# Altium schematic symbol library Allegro.SchLib: 5 symbols
Pins are listed as number, name and electrical type; pins without a type are passive.

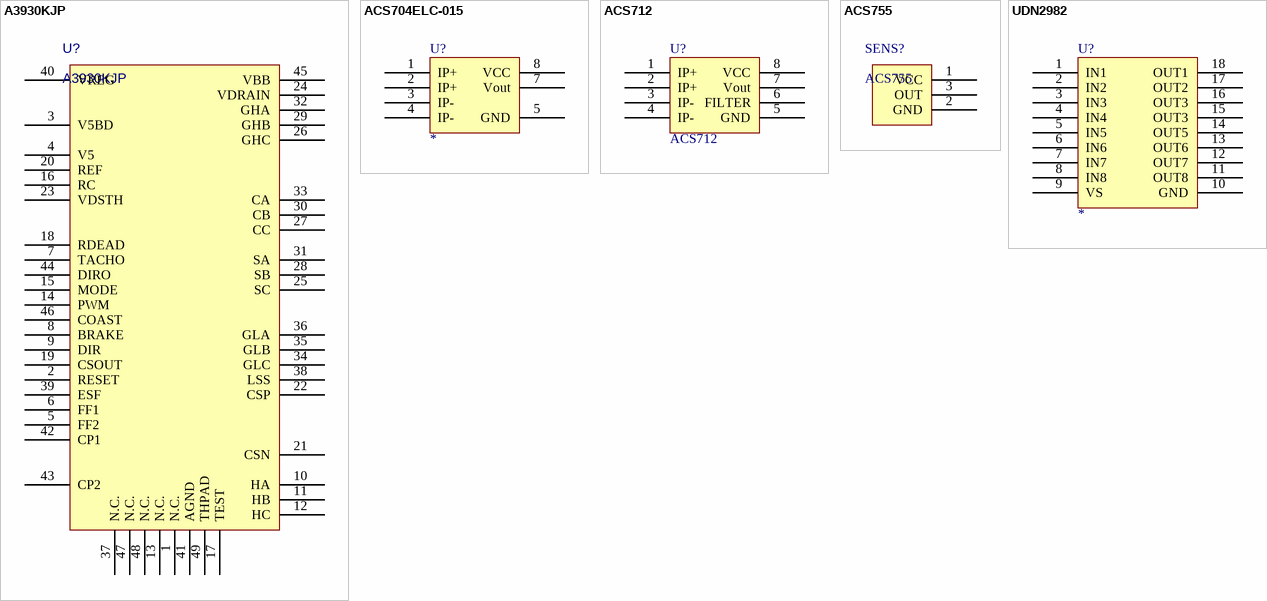
[diagram p0: symbols A3930KJP to UDN2982]

## A3930KJP
designator U?
Value: A3930KJP
pins: 1 N.C., 2 RESET, 3 V5BD, 4 V5, 5 FF2, 6 FF1, 7 TACHO, 8 BRAKE, 9 DIR, 10 HA, 11 HB, 12 HC, 13 N.C., 14 PWM, 15 MODE, 16 RC, 17 TEST, 18 RDEAD, 19 CSOUT, 20 REF, 21 CSN, 22 CSP, 23 VDSTH, 24 VDRAIN, 25 SC, 26 GHC, 27 CC, 28 SB, 29 GHB, 30 CB, 31 SA, 32 GHA, 33 CA, 34 GLC, 35 GLB, 36 GLA, 37 N.C., 38 LSS, 39 ESF, 40 VREG, 41 AGND, 42 CP1, 43 CP2, 44 DIRO, 45 VBB, 46 COAST, 47 N.C., 48 N.C., 49 THPAD

## ACS704ELC-015
designator U?
footprint 8SOIC150
pins: 1 IP+, 2 IP+, 3 IP-, 4 IP-, 5 GND, 7 Vout, 8 VCC

## ACS712
designator U?
Value: ACS712
footprint 8SOIC150
pins: 1 IP+, 2 IP+, 3 IP-, 4 IP-, 5 GND, 6 FILTER, 7 Vout, 8 VCC
1 alternate drawing of the same symbol

## ACS755
designator SENS?
Value: ACS755
pins: 1 VCC, 2 GND, 3 OUT

## UDN2982
designator U?
footprint 18SOIC300
footprint 18DIP300
pins: 1 IN1, 2 IN2, 3 IN3, 4 IN4, 5 IN5, 6 IN6, 7 IN7, 8 IN8, 9 VS, 10 GND, 11 OUT8, 12 OUT7, 13 OUT6, 14 OUT5, 15 OUT3, 16 OUT3, 17 OUT2, 18 OUT1